# EAGLE library part B16B-PH-* (library jst-ph1)
Wire-to-Board 2.0mm pitch top mount connector Source: http://www.jst-mfg.com/product/pdf/jpn/PH.pdf http://www.jst-mfg.com/product/detail.php?series=199
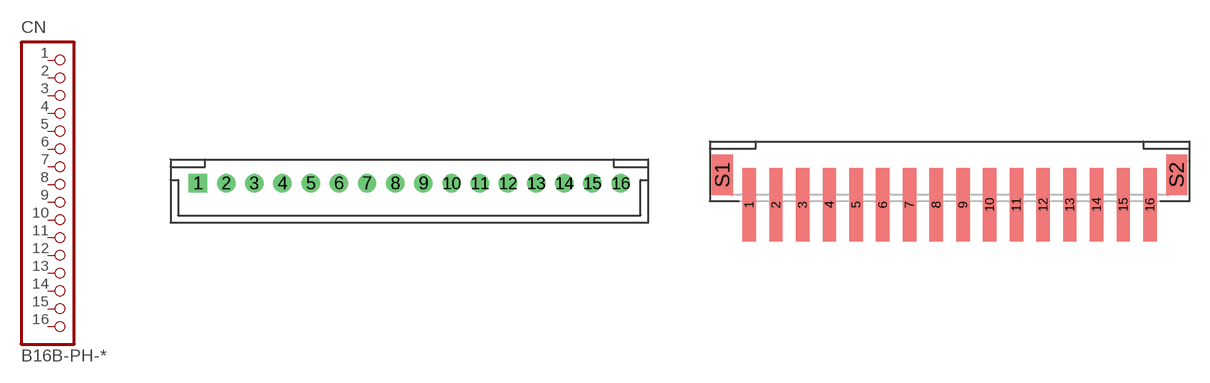
[diagram p10: symbol with the pads of B16B-PH-K-S; footprints B16B-PH-K-S, B16B-PH-SM4-TB]

Designator prefix CN

## B16B-PH-K-S  [B16B-PH-K-S]
1  1  pas
2  2  pas
3  3  pas
4  4  pas
5  5  pas
6  6  pas
7  7  pas
8  8  pas
9  9  pas
10  10  pas
11  11  pas
12  12  pas
13  13  pas
14  14  pas
15  15  pas
16  16  pas

## B16B-PH-SM4-TB  [B16B-PH-SM4-TB]
Pads as for B16B-PH-K-S

## Footprint B16B-PH-K-S (pad centres in mm)
drill 0.8 square: 1 -15,0
drill 0.8: 2 -13,0; 3 -11,0; 4 -9,0; 5 -7,0; 6 -5,0; 7 -3,0; 8 -1,0; 9 1,0; 10 3,0; 11 5,0; 12 7,0; 13 9,0; 14 11,0; 15 13,0; 16 15,0

## Footprint B16B-PH-SM4-TB (pad centres in mm)
smd 1 x 5.5: 1 -15,-3.05; 2 -13,-3.05; 3 -11,-3.05; 4 -9,-3.05; 5 -7,-3.05; 6 -5,-3.05; 7 -3,-3.05; 8 -1,-3.05; 9 1,-3.05; 10 3,-3.05; 11 5,-3.05; 12 7,-3.05; 13 9,-3.05; 14 11,-3.05; 15 13,-3.05; 16 15,-3.05
smd 1.6 x 3: S1 -17,-0.8; S2 17,-0.8